# Altium schematic symbol library Schlib1.SchLib: 4 symbols
Pins are listed as number, name and electrical type; pins without a type are passive.

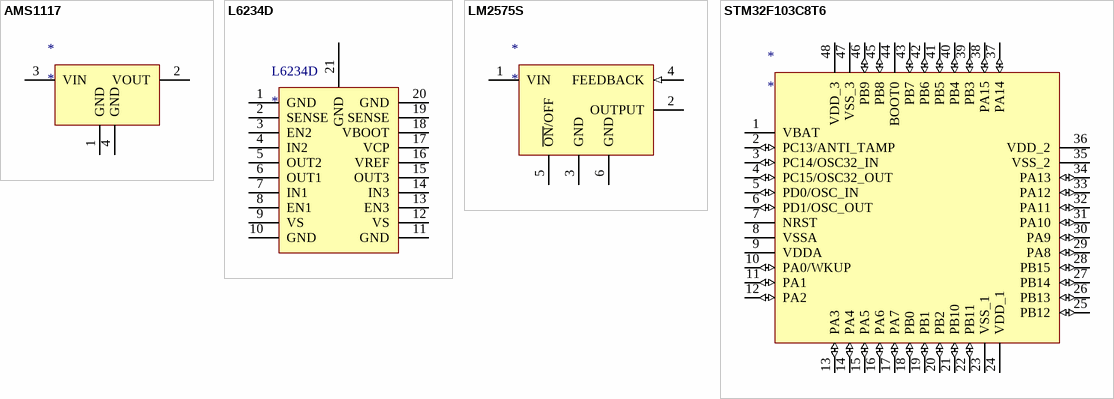
[diagram p0: symbols AMS1117 to STM32F103C8T6]

## AMS1117
designator *
footprint AMS1117 (SOT223, 4-Leads, Body 6.7x7.3mm (max), Pitch 2.29mm, IPC Low Density)
pins: 1 GND (power), 2 VOUT (power), 3 VIN (power), 4 GND

## L6234D
designator L6234D
footprint L6234DD (SOIC, 20-Leads, Body 16.0x11.1mm (max), Pitch 1.27mm, IPC Low Density)
pins: 1 GND (power), 2 SENSE, 3 EN2, 4 IN2, 5 OUT2, 6 OUT1, 7 IN1, 8 EN1, 9 VS (power), 10 GND (power), 11 GND (power), 12 VS (power), 13 EN3, 14 IN3, 15 OUT3, 16 VREF, 17 VCP, 18 VBOOT, 19 SENSE, 20 GND (power), 21 GND

## LM2575S
designator *
footprint LM2575S-TO-263-5 (D2-PAK, 6-Pads, Body 9.7x10.3mm (max), IPC Low Density)
pins: 1 VIN (power), 2 OUTPUT (power), 3 GND (power), 4 FEEDBACK (in), 5 ~{ON}/OFF, 6 GND

## STM32F103C8T6
designator *
footprint STM32F103C8T6 (TSQFP, 48-Leads, Body 9.0x9.0mm (max), Pitch 0.50mm, IPC Low Density)
pins: 1 VBAT (power), 2 PC13/ANTI_TAMP (io), 3 PC14/OSC32_IN (io), 4 PC15/OSC32_OUT (io), 5 PD0/OSC_IN (io), 6 PD1/OSC_OUT (io), 7 NRST, 8 VSSA (power), 9 VDDA (power), 10 PA0/WKUP (io), 11 PA1 (io), 12 PA2 (io), 13 PA3 (io), 14 PA4 (io), 15 PA5 (io), 16 PA6 (io), 17 PA7 (io), 18 PB0 (io), 19 PB1 (io), 20 PB2 (io), 21 PB10 (io), 22 PB11 (io), 23 VSS_1 (power), 24 VDD_1 (power), 25 PB12 (io), 26 PB13 (io), 27 PB14 (io), 28 PB15 (io), 29 PA8 (io), 30 PA9 (io), 31 PA10 (io), 32 PA11 (io), 33 PA12 (io), 34 PA13 (io), 35 VSS_2 (power), 36 VDD_2 (power), 37 PA14 (io), 38 PA15 (io), 39 PB3 (io), 40 PB4 (io), 41 PB5 (io), 42 PB6 (io), 43 PB7 (io), 44 BOOT0, 45 PB8 (io), 46 PB9 (io), 47 VSS_3 (power), 48 VDD_3 (power)